# Altium footprint library DIODE-1.PcbLib: 1 footprints
Each footprint in its own frame and in the unit in brackets; x right, y up, seen from the top. Pads: shape width x height; smd on the part's side, far side on the other; paste and mask are expansions set on the pad; w line width, h text height; cw(c..) or ccw(c..) is an arc to the next point about the centre after c.
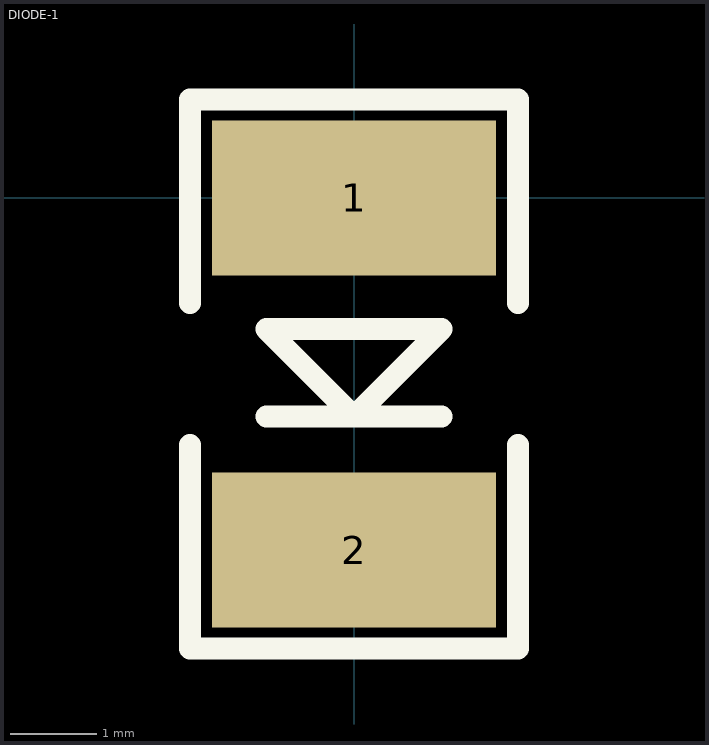
[diagram p0: the footprint, top view; thin cyan lines are the x and y axes]

## DIODE-1 [mm]
pads (2):
  rect 3.3x1.8 smd: 1(0,0) 2(0,-4.089)
Top Overlay:
  lines w0.254: -1.905,-2.87 -1.905,-5.232 1.905,-5.232 1.905,-2.87 ; -1.905,-1.219 -1.905,1.143 1.905,1.143 1.905,-1.219 ; -1.016,-2.54 1.016,-2.54 ; -1.016,-1.524 1.016,-1.524 0,-2.54 -1.016,-1.524